# EAGLE library part NTS0102 (library microbuilder)
NTS0102 - I2C Level Shifter The NTS0102 is a 2-bit, open-drain, dual supply translating transceiver with auto direction sensing, that enables bidirectional voltage level translation. VCCA: 1.65-3.6V VCCB: 2.3V-5.5V Max Data Rate: 50 Mbps Temperature: -40°C - 125°C XSON8 Package (NTS0102GT) - Mouser: 771-NTS0102GT115
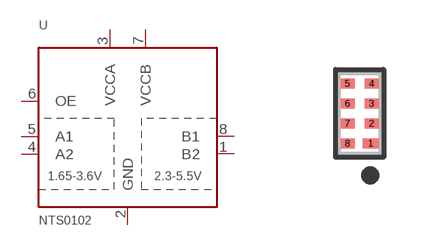
[diagram p209: symbol with the pads of SOT833-1; footprint SOT833-1]

Designator prefix U

## NTS0102XSON8  [SOT833-1]
1  B2
2  GND
3  VCCA
4  A2
5  A1
6  OE
7  VCCB
8  B1

## Footprint SOT833-1 (pad centres in mm)
Source: http://ics.nxp.com/packaging/package.outlines/pdf/sot833-1.pdf
smd 0.4 x 0.25: 1 0.275,-0.75
smd 0.35 x 0.25: 2 0.3,-0.25; 3 0.3,0.25; 4 0.3,0.75; 5 -0.3,0.75; 6 -0.3,0.25; 7 -0.3,-0.25; 8 -0.3,-0.75